# Altium footprint library Main board for stk  modify202003031.PcbLib: 70 footprints (part 3 of 5)
Each footprint in its own frame and in the unit in brackets; x right, y up, seen from the top. Pads: shape width x height; smd on the part's side, far side on the other; paste and mask are expansions set on the pad; w line width, h text height; cw(c..) or ccw(c..) is an arc to the next point about the centre after c.
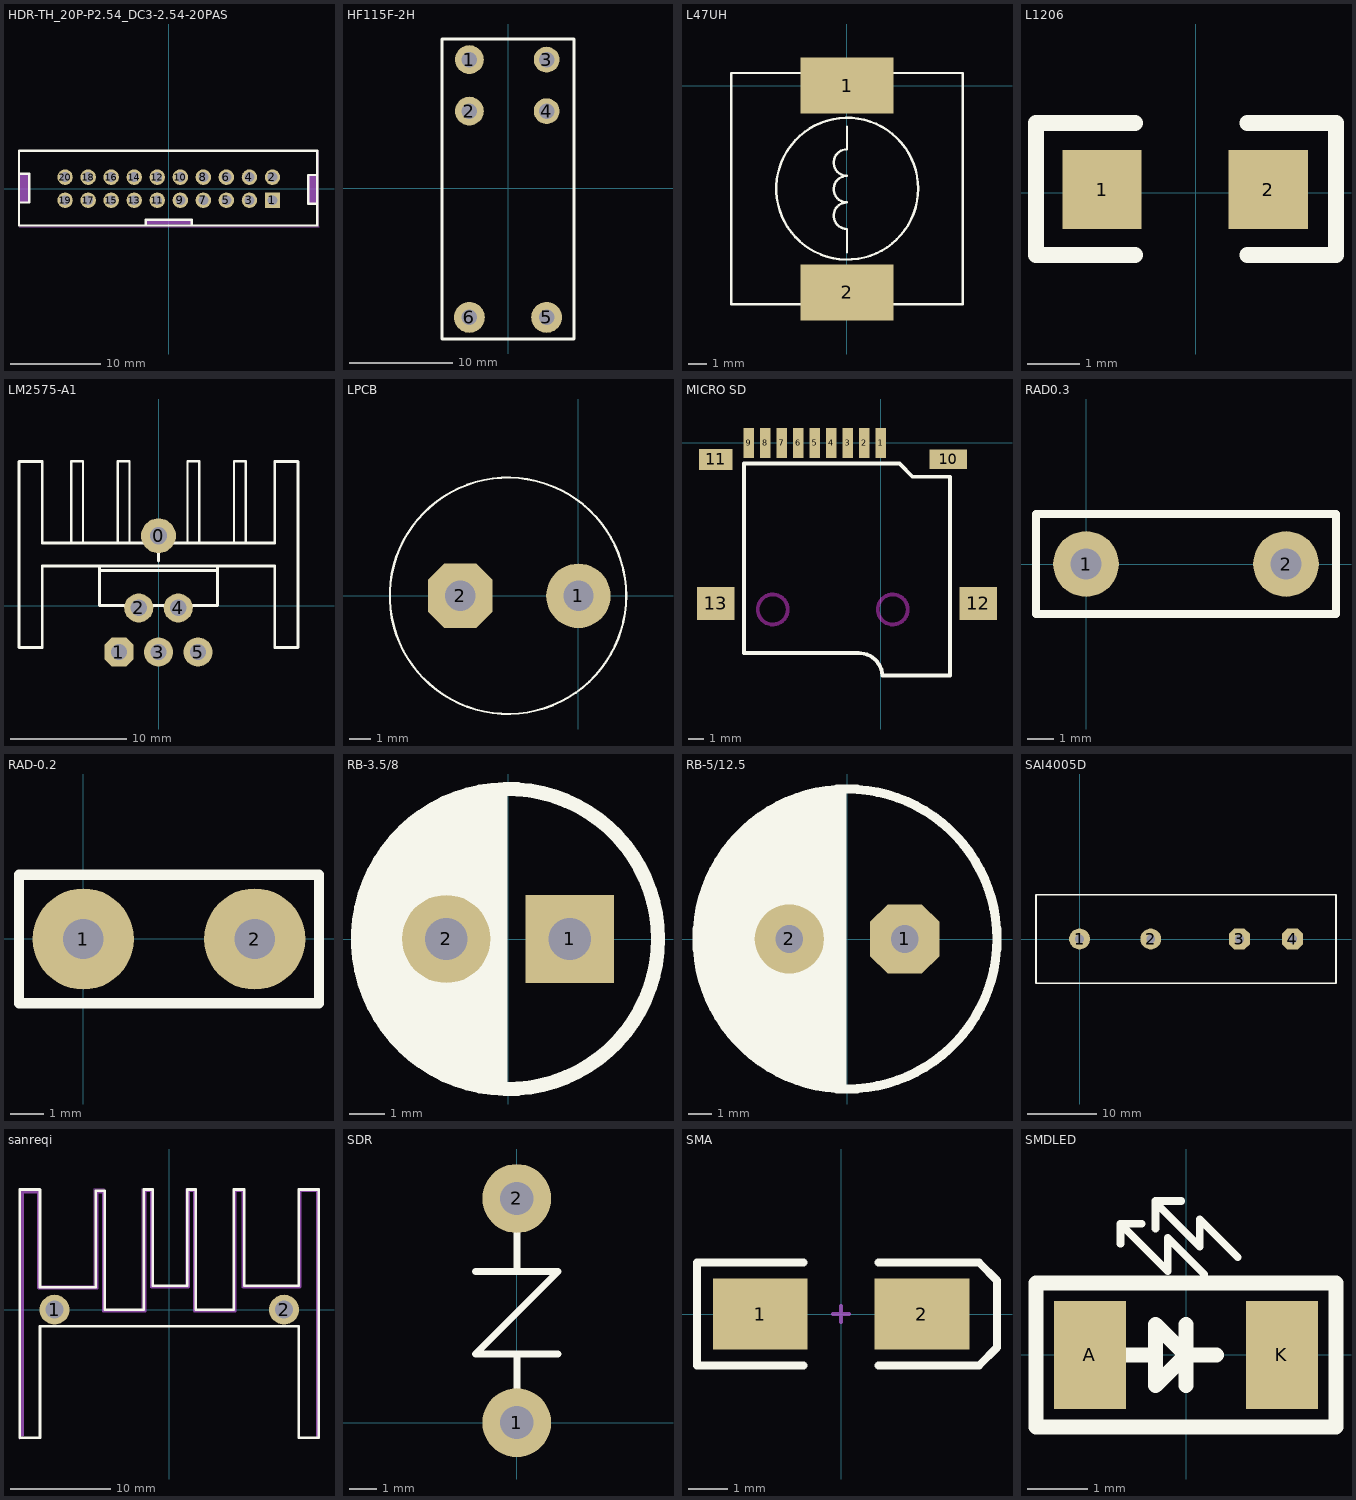
[diagram p2: the footprints below, top view; thin cyan lines are the x and y axes]

## HDR-TH_20P-P2.54_DC3-2.54-20PAS [mm]
pads (20):
  rect 1.7x1.7 hole 1.1 paste+0 mask+0.051: 1(11.43,-1.27)
  round 1.7 hole 1.1 paste+0 mask+0.051: 2(11.43,1.27) 3(8.89,-1.27) 4(8.89,1.27) 5(6.35,-1.27) 6(6.35,1.27) 7(3.81,-1.27) 8(3.81,1.27) 9(1.27,-1.27) 10(1.27,1.27) 11(-1.27,-1.27) 12(-1.27,1.27) 13(-3.81,-1.27) 14(-3.81,1.27) 15(-6.35,-1.27) 16(-6.35,1.27) 17(-8.89,-1.27) 18(-8.89,1.27) 19(-11.43,-1.27) 20(-11.43,1.27)
Top Overlay:
  lines w0.254: -16.383,-1.524 -15.367,-1.524 -15.367,1.143 -15.367,1.651 -16.383,1.651 ; -2.54,-3.937 -2.54,-3.429 2.54,-3.429 2.54,-4.064 ; 16.383,-1.651 15.367,-1.651 15.367,-1.143 15.367,1.524 16.383,1.524 ; -16.51,-4.064 -16.51,4.191 16.383,4.191 16.383,-4.064 -16.51,-4.064
Mechanical 6:
  region: -2.54,-3.937 -2.54,-3.429 2.54,-3.429 2.54,-3.937
  region: -16.383,1.651 -15.367,1.651 -15.367,-1.524 -16.383,-1.524
  region: 16.383,-1.651 15.367,-1.651 15.367,1.524 16.383,1.524
Mechanical 15:
  region: -11.75,-0.95 -11.11,-0.95 -11.11,-1.59 -11.75,-1.59
  region: -11.75,1.59 -11.11,1.59 -11.11,0.95 -11.75,0.95
  region: -9.21,-0.95 -8.57,-0.95 -8.57,-1.59 -9.21,-1.59
  region: -9.21,1.59 -8.57,1.59 -8.57,0.95 -9.21,0.95
  region: -6.67,-0.95 -6.03,-0.95 -6.03,-1.59 -6.67,-1.59
  region: -6.67,1.59 -6.03,1.59 -6.03,0.95 -6.67,0.95
  region: -4.13,-0.95 -3.49,-0.95 -3.49,-1.59 -4.13,-1.59
  region: -4.13,1.59 -3.49,1.59 -3.49,0.95 -4.13,0.95
  region: -1.59,-0.95 -0.95,-0.95 -0.95,-1.59 -1.59,-1.59
  region: -1.59,1.59 -0.95,1.59 -0.95,0.95 -1.59,0.95
  region: 0.95,-0.95 1.59,-0.95 1.59,-1.59 0.95,-1.59
  region: 0.95,1.59 1.59,1.59 1.59,0.95 0.95,0.95
  region: 3.49,-0.95 4.13,-0.95 4.13,-1.59 3.49,-1.59
  region: 3.49,1.59 4.13,1.59 4.13,0.95 3.49,0.95
  region: 6.03,-0.95 6.67,-0.95 6.67,-1.59 6.03,-1.59
  region: 6.03,1.59 6.67,1.59 6.67,0.95 6.03,0.95
  region: 8.57,-0.95 9.21,-0.95 9.21,-1.59 8.57,-1.59
  region: 8.57,1.59 9.21,1.59 9.21,0.95 8.57,0.95
  region: 11.11,-0.95 11.75,-0.95 11.75,-1.59 11.11,-1.59
  region: 11.11,1.59 11.75,1.59 11.75,0.95 11.11,0.95
  region: 16.56,-4.2 16.56,-4.175 16.525,-4.14 16.475,-4.14 16.44,-4.175 16.44,-4.2 16.44,-4.225 16.475,-4.26 16.525,-4.26 16.56,-4.225
  lines w0.051: -16.5,-4.2 16.5,-4.2 16.5,4.2 -16.5,4.2 -16.5,-4.2

## HF115F-2H [mm]
pads (6):
  round 2.8 hole 1.5: 1(-3.75,12.5) 2(-3.75,7.5)
  round 2.5 hole 1.5: 3(3.75,12.5) 4(3.75,7.5)
  round 3 hole 1.5: 5(3.75,-12.5) 6(-3.75,-12.5)
Top Overlay:
  lines w0.254: -6.4,-14.6 6.4,-14.6 6.4,14.5 -6.4,14.5 -6.4,-14.6

## L47UH [mm]
pads (2):
  rect 5x3 smd: 1(0,0) 2(0,-11.074)
Top Overlay:
  circle w0.127: c0.01,-5.519 r3.8
  lines w0.127: 0,-8.923 0,-7.678 cw(c0,-6.967) 0,-6.256 cw(c0,-5.544) 0,-4.833 cw(c0,-4.122) 0,-3.411 0,-2.192 ; -6.2,-11.719 -6.2,0.681 6.2,0.681 6.2,-11.719 -6.2,-11.719

## L1206 [mil] "1/4W"
pads (2):
  rect 60x60 smd: 1(-70.99,2.53) 2(55,2.53)
Top Overlay:
  lines w12: -46,-47 -121,-47 -121,53 -46,53 ; 39,-47 106.3,-47 106.3,53 39,53
3D body "V1206HD.STEP": height 62.99, standoff 0, extent -70.98,-27 55,32.06

## LM2575-A1 [mm]
pads (6):
  round 3 hole 1.5: 0(0,6)
  oct 2.5x2.5 hole 1.4: 1(-3.4,-4)
  round 2.5 hole 1.4: 2(-1.7,-0.2) 3(0,-4) 4(1.7,-0.2) 5(3.4,-4)
Top Overlay:
  lines w0.2: -7.5,5.4 -7.5,12.4 -6.5,12.4 -6.5,5.588 ; -3.5,5.4 -3.5,12.4 -2.5,12.4 -2.5,5.588 ; 2.5,5.588 2.5,12.4 3.5,12.4 3.5,5.4 ; 6.5,5.4 6.5,12.4 7.5,12.4 7.5,5.4
  lines w0.254: -5.08,3.4 -5.08,1.389 -5.08,0 5.08,0 5.08,3.4 ; -5,3 5,3 ; -0.013,3.828 -0.013,5.428 ; -12,-3.6 -10,-3.6 -10,3.4 10,3.4 10,-3.6 12,-3.6 12,12.4 10,12.4 10,5.4 -10,5.4 -10,12.4 -12,12.4 -12,-3.6

## LPCB [mm]
pads (2):
  round 3 hole 1.4: 1(0,0)
  oct 3x3 hole 1.4: 2(-5.5,0)
Top Overlay:
  circle w0.102: c-3.277,0 r5.5

## MICRO SD [mm]
pads (13):
  rect 0.7x2 smd: 1(0,0) 2(-1.1,0) 3(-2.2,0) 4(-3.3,0) 5(-4.4,0) 6(-5.5,0) 7(-6.6,0) 8(-7.7,0) 9(-8.8,0)
  rect 2.5x1.3 smd: 10(4.5,-1.1)
  rect 2.2x1.4 smd: 11(-11,-1.1)
  rect 2.5x2.2 smd: 12(6.5,-10.7) 13(-11,-10.7)
Top Overlay:
  lines w0.254: -9.125,-14.01 -9.125,-1.375 1.25,-1.375 2.125,-2.25 4.625,-2.25 4.625,-15.5 0.125,-15.5 ; -9.11,-14.01 -1.485,-14.01 ; -1.515,-14.01 cw(c-1.453,-15.573) 0.11,-15.51
Keep-Out Layer:
  circle w0.254: c-7.2,-11.1 r1
  circle w0.254: c0.8,-11.1 r1

## RAD0.3 [mm]
pads (2):
  round 2.5 hole 1.2: 1(0,0) 2(7.62,0)
Top Overlay:
  lines w0.305: -1.905,-1.905 9.525,-1.905 9.525,1.905 -1.905,1.905 -1.905,-1.905

## RAD-0.2 [mm]
pads (2):
  round 3 hole 1.2: 1(0,0) 2(5.08,0)
Top Overlay:
  lines w0.305: -1.905,-1.905 -1.905,1.905 6.985,1.905 6.985,-1.905 -1.905,-1.905

## RB-3.5/8 [mm]
pads (2):
  rect 2.5x2.5 hole 1.2: 1(1.75,0)
  round 2.5 hole 1.2: 2(-1.75,0)
Top Overlay:
  circle w0.4: c0,0 r4.25
  rectangle: -1.016,-4.2 -0.016,4.2
  rectangle: -2.54,0.6 -0.508,2.54
  rectangle: -2.54,-2.54 -0.236,-0.6
  lines w0.4: -0.376,-2.674 cw(c0,0) -0.376,2.674 ; -0.314,-3.586 cw(c0,0) -0.314,3.586 ; -0.314,-2.984 cw(c0,0) -0.314,2.984 ; -0.288,-3.287 cw(c0,0) -0.288,3.287
  lines w0.6: -0.356,-3.885 cw(c-0.016,0) -0.356,3.885

## RB-5/12.5 [mm]
pads (2):
  oct 3x3 hole 1.2: 1(2.5,0)
  round 3 hole 1.2: 2(-2.5,0)
Top Overlay:
  circle w0.4: c0,0 r6.5
  rectangle: -1.016,-6.45 -0.016,6.45
  rectangle: -3.556,0.6 -0.508,3.556
  rectangle: -3.555,-3.554 -0.235,-0.598
  lines w0.4: -0.564,-5.37 cw(c0,0) -0.564,5.37 ; -0.549,-6.276 cw(c0,0) -0.549,6.276 ; -0.497,-5.678 cw(c0,0) -0.497,5.678
  lines w0.5: -0.548,-6.077 cw(c-0.016,0) -0.548,6.077
  lines w0.6: -1.524,-1.016 -1.524,1.016 ; -1.016,-1.016 -1.016,1.016 ; -0.696,-4.951 cw(c0,0) -0.696,4.951 ; -0.626,-4.456 cw(c0,0) -0.626,4.456 ; -0.571,-4.06 cw(c0,0) -0.571,4.06 ; -0.501,-3.565 cw(c0,0) -0.501,3.565

## SAI4005D [mm] "固特继电器"
pads (4):
  round 3 hole 1.27: 1(0,0) 2(10.2,0)
  oct 3x3 hole 1.27: 3(22.9,0) 4(30.5,0)
Top Overlay:
  lines w0.254: -6.25,-6.35 36.75,-6.35 36.75,6.35 -6.25,6.35 -6.25,-6.35

## sanreqi [mm]
pads (2):
  round 3 hole 1.8 paste+0 mask+0.05: 1(-11.5,0) 2(11.5,0)
Top Overlay:
  lines w0.254: -14.986,-12.846 -14.986,12.046 -12.954,12.046 -12.954,2.267 -7.366,2.267 -7.366,11.919 -6.477,11.919 -6.477,-0.019 -2.54,-0.019 -2.54,12.046 -1.651,12.046 -1.651,2.394 1.778,2.394 1.778,12.046 2.667,12.046 2.667,-0.019 6.477,-0.019 6.477,12.046 7.493,12.046 7.493,2.394 12.954,2.394 12.954,12.046 14.986,12.046 14.986,-12.846 12.954,-12.846 12.954,-1.67 -12.954,-1.67 -12.954,-12.846 -14.986,-12.846
Mechanical 6:
  drawing of 1 lines, arcs and shapes, not listed
Mechanical 15:
  region: -14.94,-12.9 -14.94,-12.875 -14.975,-12.84 -15.025,-12.84 -15.06,-12.875 -15.06,-12.9 -15.06,-12.925 -15.025,-12.96 -14.975,-12.96 -14.94,-12.925
  region: -10.638,0.024 -10.638,0.141 -10.698,0.367 -10.815,0.57 -10.981,0.735 -11.184,0.852 -11.41,0.913 -11.644,0.913 -11.87,0.852 -12.073,0.735 -12.238,0.57 -12.355,0.367 -12.416,0.141 -12.416,0.024 -12.416,-0.093 -12.355,-0.319 -12.238,-0.522 -12.073,-0.687 -11.87,-0.805 -11.644,-0.865 -11.41,-0.865 -11.184,-0.805 -10.981,-0.687 -10.815,-0.522 -10.698,-0.319 -10.638,-0.093
  region: 12.2,0 12.2,0.092 12.152,0.27 12.06,0.43 11.93,0.56 11.77,0.652 11.592,0.7 11.408,0.7 11.23,0.652 11.07,0.56 10.94,0.43 10.848,0.27 10.8,0.092 10.8,0 10.8,-0.092 10.848,-0.27 10.94,-0.43 11.07,-0.56 11.23,-0.652 11.408,-0.7 11.592,-0.7 11.77,-0.652 11.93,-0.56 12.06,-0.43 12.152,-0.27 12.2,-0.092
  lines w0.051: -15,-12.9 -13,-12.9 -13,-1.6 13,-1.6 13,-12.9 15,-12.9 15,12.1 13,12.1 13,2.4 7.5,2.4 7.5,12.1 6.5,12.1 6.5,0 2.7,0 2.7,12.1 1.7,12.1 1.7,2.505 1.595,2.4 -1.7,2.4 -1.7,12.1 -2.7,12.1 -2.7,0 -6.5,0 -6.5,12.1 -7.5,12.1 -7.5,2.4 -13,2.4 -13,12.1 -15,12.1 -15,-12.9

## SDR [mm]
pads (2):
  round 2.5 hole 1.2: 1(0,0) 2(0,8.128)
Top Overlay:
  lines w0.254: -1.499,5.486 1.499,5.486 -1.499,2.489 1.499,2.489 ; 0,0 0,2.489 ; 0,5.486 0,8.001

## SMA [mm] "DO-214-AC/SMA; 2 C-Bend Leads; Body 5 x 2.7 mm, inc. leads (LxW)"
height 2.44
pads (2):
  rect 2.4x1.8 smd: 1(-2.05,0) 2(2.05,0)
Top Overlay:
  lines w0.2: -0.95,-1.3 -3.65,-1.3 -3.65,1.3 -0.95,1.3 ; 0.95,-1.3 3.5,-1.3 3.95,-0.85 3.95,0.85 3.5,1.3 0.95,1.3
Mechanical 1:
  lines w0.1: -0.2,0 0.2,0 ; 0,-0.2 0,0.2

## SMDLED [mm]
pads (2):
  rect 1.2x1.8 smd: A(-1.6,0) K(1.6,0)
Top Overlay:
  lines w0.127: -1.092,1.854 -1.092,2.184 -0.305,1.397 -0.305,1.956 0.305,1.346 ; -1.067,2.184 -0.737,2.184 ; -0.508,2.108 -0.508,2.54 0.229,1.803 0.229,2.261 0.864,1.626 ; -0.508,2.565 -0.076,2.565
  lines w0.254: -1.016,0 -0.508,0 ; 0,-0.508 0,0.508 ; 0.508,0 0,0 ; 0,0 -0.508,-0.508 -0.508,0.508 0,0 ; -2.5,-1.2 2.5,-1.2 2.5,1.2 -2.5,1.2 -2.5,-1.2